# Altium footprint library EEEFT0J101AR.PcbLib: 1 footprints
Each footprint in its own frame and in the unit in brackets; x right, y up, seen from the top. Pads: shape width x height; smd on the part's side, far side on the other; paste and mask are expansions set on the pad; w line width, h text height; cw(c..) or ccw(c..) is an arc to the next point about the centre after c.
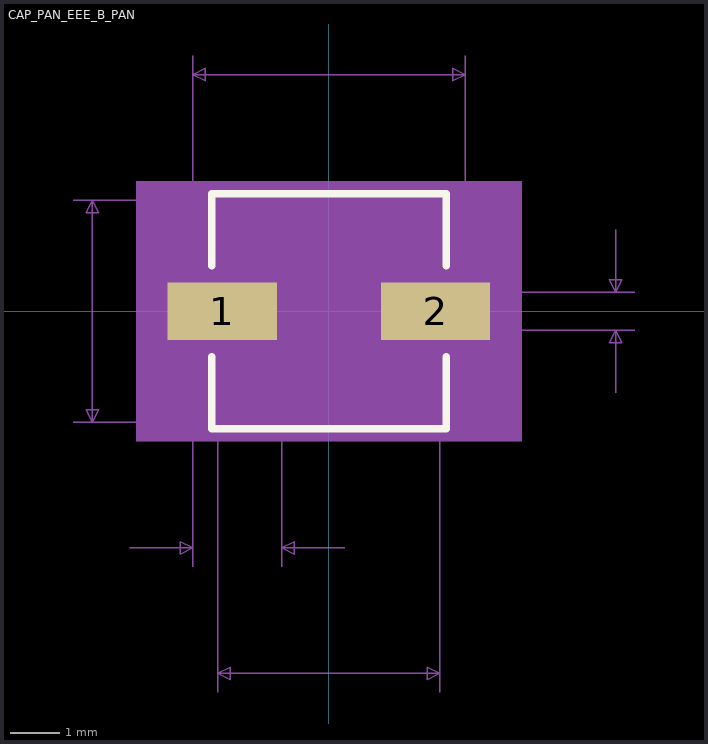
[diagram p0: the footprint, top view; thin cyan lines are the x and y axes]

## CAP_PAN_EEE_B_PAN [mil]
pads (2):
  rect 87x46 smd paste+0 mask+0: 1(-85,0) 2(85,0)
Top Overlay:
  lines w6: -93.5,-36.1 -93.5,-93.5 93.5,-93.5 93.5,-36.1 ; -93.5,36.1 -93.5,93.5 93.5,93.5 93.5,36.1
Mechanical 5:
  region: 153.5,-103.5 -153.5,-103.5 -153.5,103.5 153.5,103.5
Mechanical 7:
  lines w1: -203.5,-88.5 -88.5,-88.5 -88.5,-303.5 ; -203.5,88.5 -88.5,88.5 ; -158.5,-188.5 -108.5,-188.5 ; -108.5,-203.5 -108.5,-33 ; -108.5,33 -108.5,203.5 ; -37.5,-203.5 -37.5,-13 ; 12.5,-188.5 -37.5,-188.5 ; 88.5,-303.5 88.5,-88.5 ; 108.5,33 108.5,203.5 ; 138.5,-15 243.5,-15 ; 138.5,15 243.5,15 ; 228.5,-65 228.5,-15 ; 228.5,65 228.5,15 ; -188.5,-88.5 -183.5,-78.5 -193.5,-78.5 -188.5,-88.5 ; -188.5,-88.5 -188.5,88.5 ; -188.5,88.5 -183.5,78.5 -193.5,78.5 -188.5,88.5 ; -108.5,-188.5 -118.5,-193.5 -118.5,-183.5 -108.5,-188.5 ; -108.5,188.5 -98.5,183.5 -98.5,193.5 -108.5,188.5 ; -108.5,188.5 108.5,188.5 ; -88.5,-288.5 -78.5,-293.5 -78.5,-283.5 -88.5,-288.5 ; -88.5,-288.5 88.5,-288.5 ; -37.5,-188.5 -27.5,-193.5 -27.5,-183.5 -37.5,-188.5 ; 88.5,-288.5 78.5,-293.5 78.5,-283.5 88.5,-288.5 ; 108.5,188.5 98.5,183.5 98.5,193.5 108.5,188.5 ; 228.5,-15 233.5,-25 223.5,-25 228.5,-15 ; 228.5,15 233.5,25 223.5,25 228.5,15
  text "0.177in/4.496mm" at -93.75,-333.5 h25
  text "0.071in/1.803mm" at -166.75,-233.5 h25
  text "0.177in/4.496mm" at -396,-12.5 h25
  text "0.217in/5.512mm" at -93.75,208.5 h25
  text "0.03in/0.762mm" at 248.5,-12.5 h25
  text "Alternate 2 Padstyle: OX90Y60D30P" at -412.5,-652 h50
  text "Alternate 1 Padstyle: OX60Y90D30P" at -412.5,-552 h50
  text "Default Padstyle: RX87Y46D0T" at -350,-452 h50
Mechanical 13:
  lines w1: -88.5,-44.25 -44.25,-88.5 ; -88.5,44.25 -44.25,88.5 ; -88.5,-88.5 -88.5,88.5 88.5,88.5 88.5,-88.5 -88.5,-88.5
Mechanical 15:
  region: -98.5,-33 -138.5,-33 -138.5,33 -98.5,33 -98.5,98.5 98.5,98.5 98.5,33 138.5,33 138.5,-33 98.5,-33 98.5,-98.5 -98.5,-98.5
  lines w6: -138.5,-33 -98.5,-33 -98.5,-98.5 98.5,-98.5 98.5,-33 138.5,-33 138.5,33 98.5,33 98.5,98.5 -98.5,98.5 -98.5,33 -138.5,33 -138.5,-33
3D body "CAP_PAN_EEE_B_PAN.step": height 242.09, standoff 0, extent -108.5,-88.5 108.5,88.5